# EAGLE library part PH-06 (library con-jst-ph)
HEADER
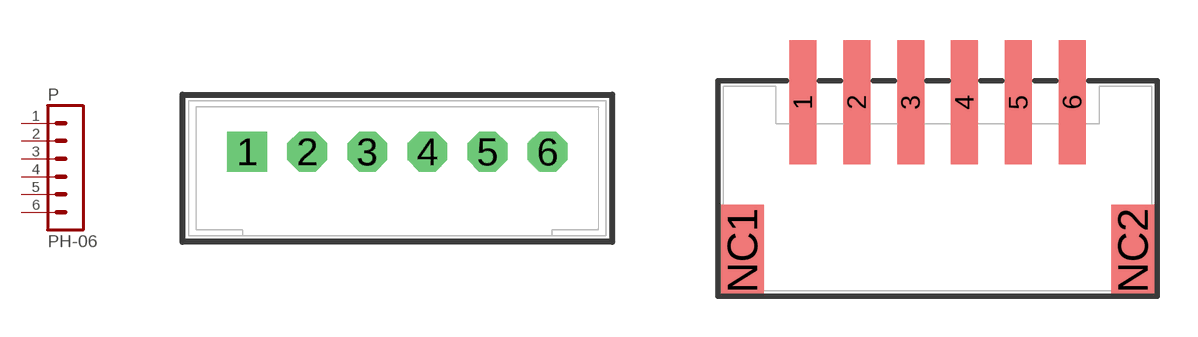
[diagram p0: symbol with the pads of B6B-PH-K; footprints B6B-PH-K, S6B-PH-SM4]

Designator prefix P

## PH-06  [B6B-PH-K]
1  1  pas
2  2  pas
3  3  pas
4  4  pas
5  5  pas
6  6  pas

## PH-06SMT  [S6B-PH-SM4]
Pads as for B6B-PH-K

## Footprint B6B-PH-K (pad centres in mm)
HEADER
drill 0.813 square: 1 -5,0
drill 0.813 octagon: 2 -3,0; 3 -1,0; 4 1,0; 5 3,0; 6 5,0

## Footprint S6B-PH-SM4 (pad centres in mm)
HEADER
smd 1 x 4.6: 1 -5,1; 2 -3,1; 3 -1,1; 4 1,1; 5 3,1; 6 5,1
smd 1.6 x 3.4: NC1 -7.25,-4.5; NC2 7.25,-4.5